# Altium footprint library Footprint-Lib-JVillodres.PcbLib: 52 footprints (part 4 of 4)
Each footprint in its own frame and in the unit in brackets; x right, y up, seen from the top. Pads: shape width x height; smd on the part's side, far side on the other; paste and mask are expansions set on the pad; w line width, h text height; cw(c..) or ccw(c..) is an arc to the next point about the centre after c.
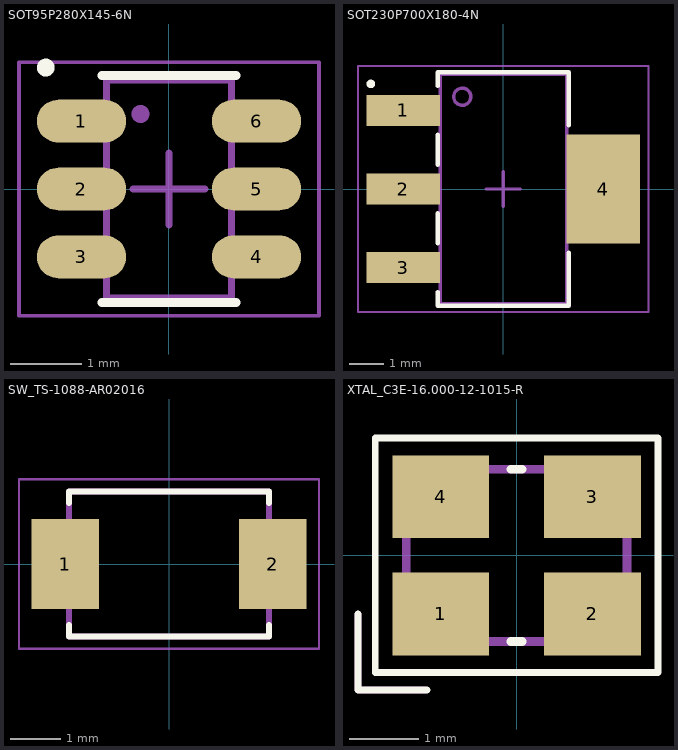
[diagram p3: the footprints below, top view; thin cyan lines are the x and y axes]

## SOT95P280X145-6N [mm] "SOT23, 6-Leads, Body 2,93x2,80mm, Pitch 0,95mm, IPC Medium Density"
height 1.45
pads (6):
  oval 1.25x0.6 smd: 1(-1.225,0.95) 2(-1.225,0) 3(-1.225,-0.95) 4(1.225,-0.95) 5(1.225,0) 6(1.225,0.95)
Top Overlay:
  circle w0.125: c-1.725,1.7 r0.062
  lines w0.127: -0.938,-1.588 0.939,-1.588 ; -0.938,1.589 0.939,1.589
Top Assembly:
  circle w0.125: c-0.4,1.05 r0.062
  lines w0.1: -0.875,-1.525 0.875,-1.525 0.875,1.525 -0.875,1.525 -0.875,-1.525
Top Courtyard:
  lines w0.05: -2.1,-1.775 2.1,-1.775 2.1,1.775 -2.1,1.775 -2.1,-1.775
  lines w0.1: -0.5,0 0.5,0 ; 0,-0.5 0,0.5
3D body "SOT95P280X145-6N.step": height 1.45, standoff 0, extent -1.6,-1.525 1.6,1.525

## SOT230P700X180-4N [mm] "SOT223, 4-Leads, Body 6,50x7,00mm (avg), Pitch 2,30mm, IPC Medium Density"
height 1.8
pads (4):
  rect 2.15x0.9 smd: 1(-2.925,2.3) 2(-2.925,0) 3(-2.925,-2.3)
  rect 2.15x3.2 smd: 4(2.925,0)
Top Overlay:
  circle w0.125: c-3.875,3.075 r0.062
  lines w0.127: -1.914,-3.013 -1.914,-3.413 1.913,-3.413 1.913,-1.863 ; -1.914,-1.587 -1.914,-0.713 ; -1.914,0.713 -1.914,1.587 ; -1.914,3.013 -1.914,3.414 1.913,3.414 1.913,1.863
Top Assembly:
  circle w0.1: c-1.2,2.7 r0.25
  lines w0.1: -1.85,-3.35 1.85,-3.35 1.85,3.35 -1.85,3.35 -1.85,-3.35
Top Courtyard:
  lines w0.05: -4.25,-3.6 4.25,-3.6 4.25,3.6 -4.25,3.6 -4.25,-3.6
  lines w0.1: -0.5,0 0.5,0 ; 0,-0.5 0,0.5
3D body "SOT230P700X180-4N.step": height 1.8, standoff 0, extent -3.5,-3.35 3.5,3.35

## SW_TS-1088-AR02016 [mm]
pads (2):
  rect 1.35x1.8 smd: 1(-2.075,0) 2(2.075,0)
Top Overlay:
  lines w0.127: -2,-1.22 -2,-1.45 2,-1.45 2,-1.22 ; -2,1.22 -2,1.45 2,1.45 2,1.22
Top 3D Body:
  lines w0.127: -2,-1.45 -2,1.45 2,1.45 2,-1.45 -2,-1.45
Top Courtyard:
  lines w0.05: -3,-1.7 3,-1.7 3,1.7 -3,1.7 -3,-1.7
3D body "step_temp.STEP": height 2, standoff 0, extent -2.4,-1.45 2.4,1.45

## XTAL_C3E-16.000-12-1015-R [mm]
height 0.75
pads (4):
  rect 1.4x1.2 smd: 1(-1.1,-0.85) 2(1.1,-0.85) 3(1.1,0.85) 4(-1.1,0.85)
Top Overlay:
  lines w0.1: -2.3,-0.85 -2.3,-1.95 -1.3,-1.95 ; -2.05,-1.7 -2.05,1.7 2.05,1.7 2.05,-1.7 -2.05,-1.7
  lines w0.127: -0.08,-1.25 0.08,-1.25 ; -0.08,1.25 0.08,1.25
Top 3D Body:
  lines w0.1: -2.3,-0.85 -2.3,-1.95 -1.325,-1.95
  lines w0.127: -1.6,-1.25 -1.6,1.25 1.6,1.25 1.6,-1.25 -1.6,-1.25
Top Courtyard:
  lines w0.05: -2.05,-1.7 -2.05,1.7 2.05,1.7 2.05,-1.7 -2.05,-1.7
3D body "step_temp.STEP": height 0.75, standoff 0, extent -1.6,-1.25 1.6,1.25